# EAGLE library part TSW-S-06 (library con-samtec-tsw)
HEADER
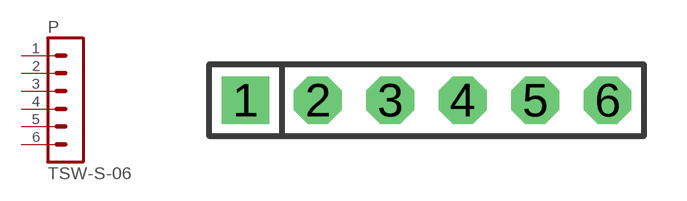
[diagram p0: symbol with the pads of TSW-S-06; footprint TSW-S-06]

Designator prefix P

## TSW-S-06  [TSW-S-06]
1  1  pas
2  2  pas
3  3  pas
4  4  pas
5  5  pas
6  6  pas

## Footprint TSW-S-06 (pad centres in mm)
HEADER
drill 0.914 pad 1.676 square: 1 -6.35,0
drill 0.914 pad 1.676 octagon: 2 -3.81,0; 3 -1.27,0; 4 1.27,0; 5 3.81,0; 6 6.35,0